# EAGLE library part HEADER-1X10 (library microbuilder)
PIN HEADER
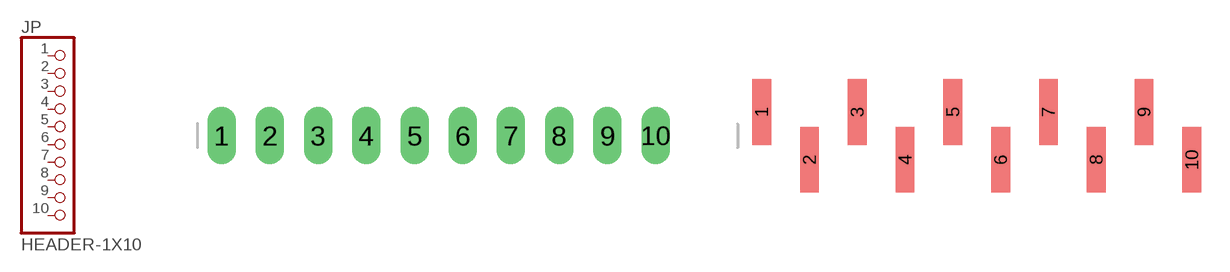
[diagram p7: symbol with the pads of 1X10_OVAL; footprints 1X10_OVAL, 1X10_SMT]

Designator prefix JP

## HEADER-1X10  [1X10_OVAL]
1  1  pas
2  2  pas
3  3  pas
4  4  pas
5  5  pas
6  6  pas
7  7  pas
8  8  pas
9  9  pas
10  10  pas

## HEADER-1X10SMT  [1X10_SMT]
Pads as for 1X10_OVAL

## HEADER-1X10ROUND  [1X10_ROUND]
Pads as for 1X10_OVAL

## HEADER-1X101X10_2MM  [1X10_ROUND_2MM]
Pads as for 1X10_OVAL

## HEADER-1X10THICKER  [1X10_ROUND_76]
Pads as for 1X10_OVAL

## Footprint 1X10_OVAL (pad centres in mm)
1x10 PIN HEADER
drill 1 long: 1 -11.43,0; 2 -8.89,0; 3 -6.35,0; 4 -3.81,0; 5 -1.27,0; 6 1.27,0; 7 3.81,0; 8 6.35,0; 9 8.89,0; 10 11.43,0

## Footprint 1X10_SMT (pad centres in mm)
Pin Headers 10 Pin, 0.1"/2.54mm pitch, SMT
smd 1 x 3.5: 1 -11.43,1.27; 2 -8.89,-1.27; 3 -6.35,1.27; 4 -3.81,-1.27; 5 -1.27,1.27; 6 1.27,-1.27; 7 3.81,1.27; 8 6.35,-1.27; 9 8.89,1.27; 10 11.43,-1.27

## Footprint 1X10_ROUND (pad centres in mm)
drill 1 pad 1.676 round: 1 -11.43,0; 2 -8.89,0; 3 -6.35,0; 4 -3.81,0; 5 -1.27,0; 6 1.27,0; 7 3.81,0; 8 6.35,0; 9 8.89,0; 10 11.43,0

## Footprint 1X10_ROUND_2MM (pad centres in mm)
1x10 2.0mm Header Pins
drill 1 pad 1.5 round: 1 -10,0; 2 -8,0; 3 -6,0; 4 -4,0; 5 -2,0; 6 0,0; 7 2,0; 8 4,0; 9 6,0; 10 8,0

## Footprint 1X10_ROUND_76 (pad centres in mm)
drill 1 pad 1.93 round: 1 -11.43,0; 2 -8.89,0; 3 -6.35,0; 4 -3.81,0; 5 -1.27,0; 6 1.27,0; 7 3.81,0; 8 6.35,0; 9 8.89,0; 10 11.43,0